# Altium schematic symbol library Drivers.SchLib: 2 symbols
Pins are listed as number, name and electrical type; pins without a type are passive.

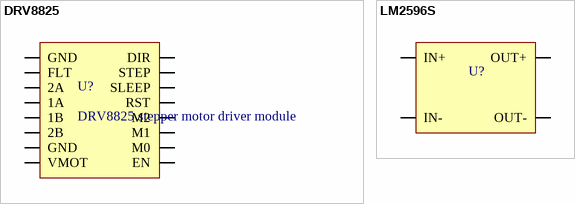
[diagram p0: symbols DRV8825 to LM2596S]

## DRV8825
designator U?, comment DRV8825 stepper motor driver module
footprint DRV8825 (DRV8825 stepper motor driver module)
pins: 1A, 1B, 2A, 2B, DIR, EN, FLT, GND, GND, M0, M1, M2, RST, SLEEP, STEP, VMOT

## LM2596S
designator U?
LM2596S DC-DC Buck Converter: step-down voltage regulator, 3A max, 1.23–37V output
footprint LM2596S
pins: IN+, IN-, OUT+, OUT-